# Altium schematic symbol library Logic.SchLib: 88 symbols
Pins are listed as number, name and electrical type; pins without a type are passive.

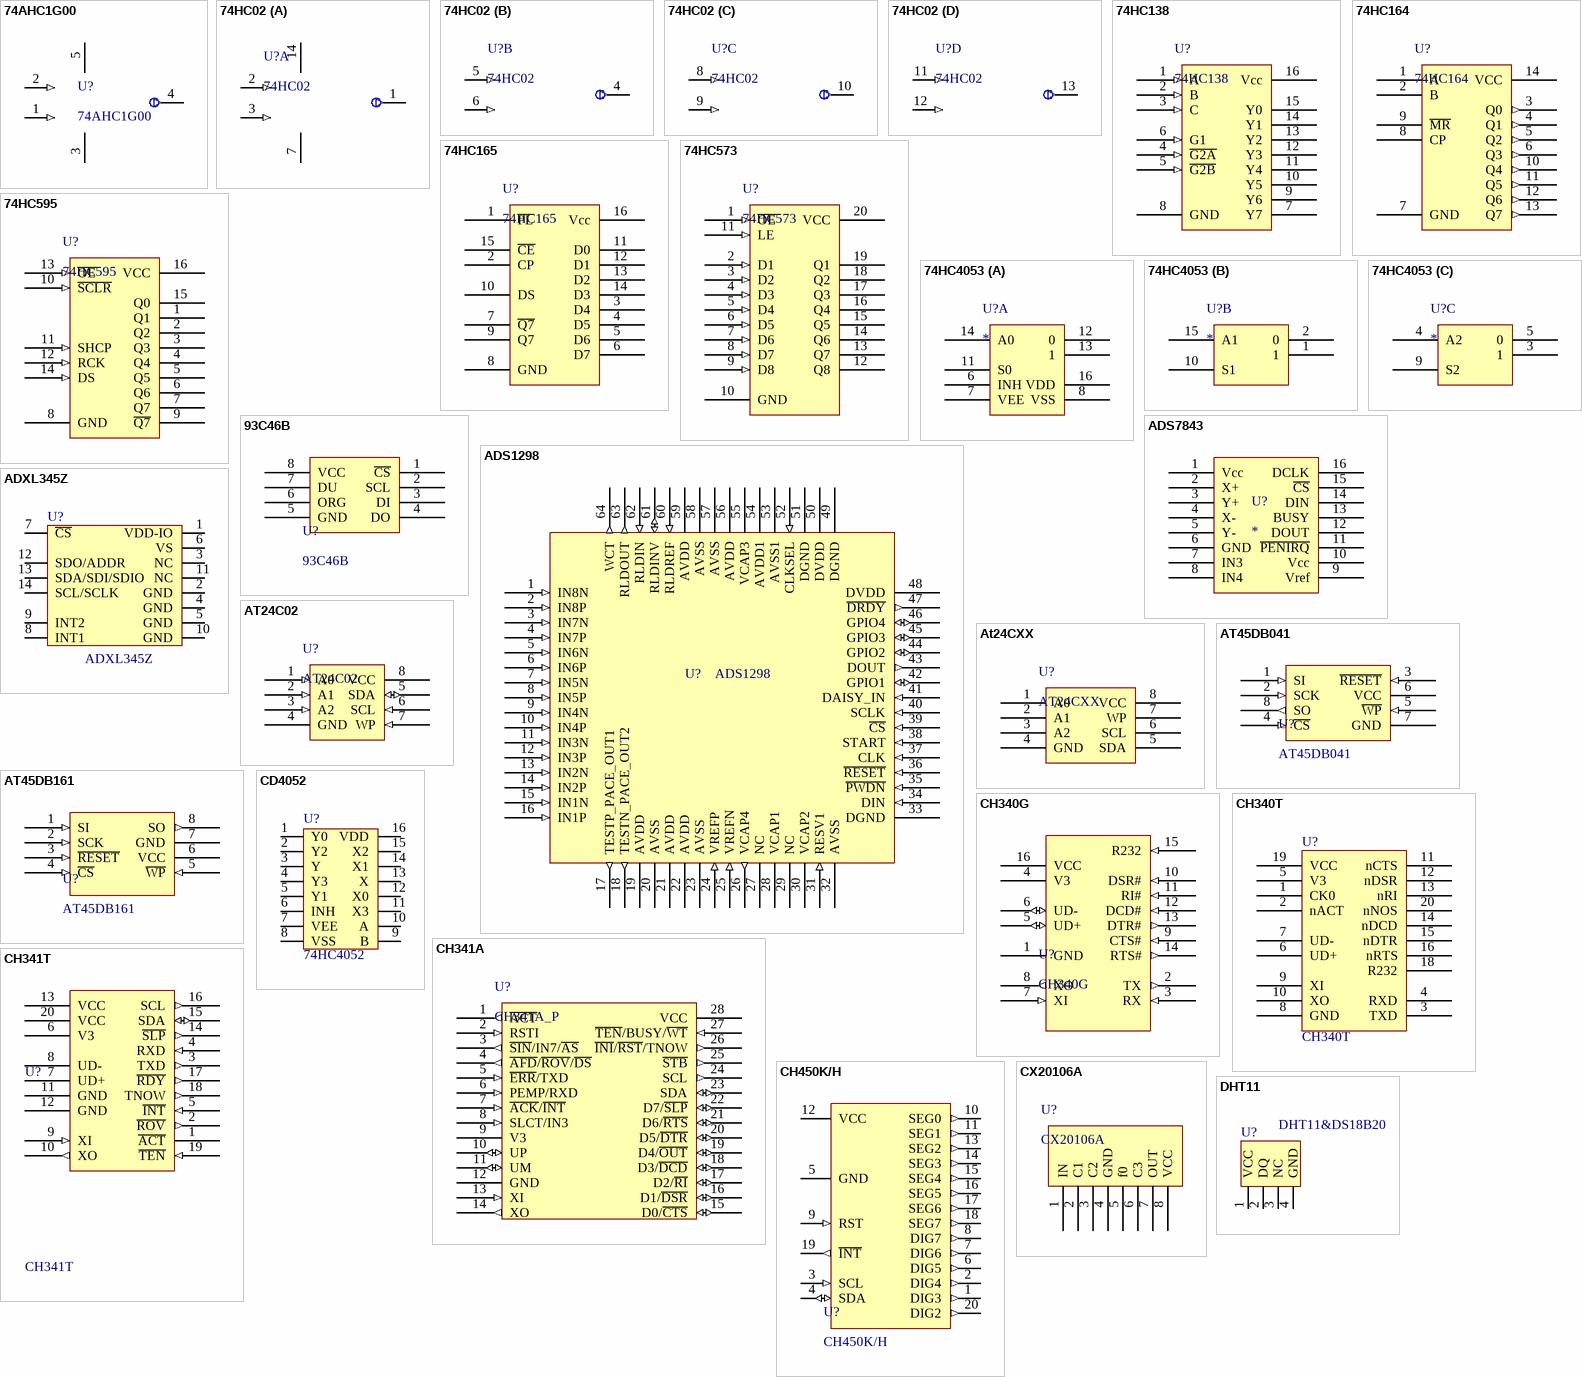
[diagram p0: symbols 74AHC1G00 to DHT11]

## 74AHC1G00
designator U?
SINGLE 2-INPUT POSITIVE-NAND GATE
footprint SOT23-5
pins: 1 (in), 2 (in), 3 (power), 4 (out), 5 (power)

## 74HC02
designator U?
Quad 2-input NOR gate
footprint SOP14
part A pins: 1 (out), 2 (in), 3 (in), 7 (power), 14 (power)
part B pins: 4 (out), 5 (in), 6 (in)
part C pins: 8 (in), 9 (in), 10 (out)
part D pins: 11 (in), 12 (in), 13 (out)

## 74HC138
designator U?
3-to-8 Line Decoder
footprint SOP16
pins: 1 A (in), 2 B (in), 3 C (in), 4 ~{G2A} (in), 5 ~{G2B} (in), 6 G1 (in), 7 Y7 (oc), 8 GND (power), 9 Y6 (oc), 10 Y5 (oc), 11 Y4 (oc), 12 Y3 (oc), 13 Y2 (oc), 14 Y1 (oc), 15 Y0 (oc), 16 Vcc (power)

## 74HC164
designator U?
8-Bit Serial-In, Parallel-Out Shift Register
footprint SOP14
pins: 1 A, 2 B, 3 Q0 (out), 4 Q1 (out), 5 Q2 (out), 6 Q3 (out), 7 GND (power), 8 CP, 9 ~{MR}, 10 Q4 (out), 11 Q5 (out), 12 Q6 (out), 13 Q7 (out), 14 VCC (power)

## 74HC165
designator U?
8-bit parallel-in/serial out shift register
footprint SOP16
pins: 1 ~{PL}, 2 CP, 3 D4 (oc), 4 D5 (oc), 5 D6 (oc), 6 D7 (oc), 7 ~{Q7}, 8 GND (power), 9 Q7, 10 DS, 11 D0 (oc), 12 D1 (oc), 13 D2 (oc), 14 D3 (oc), 15 ~{CE}, 16 Vcc (power)

## 74HC573
designator U?
OCTAL D-TYPE LATCH  WITH 3 STATE OUTPUT NON INVERTING
footprint SOT20
pins: 1 ~{OE} (in), 2 D1 (in), 3 D2 (in), 4 D3 (in), 5 D4 (in), 6 D5 (in), 7 D6 (in), 8 D7 (in), 9 D8 (in), 10 GND (power), 11 LE (in), 12 Q8 (oc), 13 Q7 (oc), 14 Q6 (oc), 15 Q5 (oc), 16 Q4 (oc), 17 Q3 (oc), 18 Q2 (oc), 19 Q1 (oc), 20 VCC (power)

## 74HC595
designator U?
8-bit serial-in, serial or parallel-out shift register with output  latches; 3-state
footprint SOP16
pins: 1 Q1 (oc), 2 Q2 (oc), 3 Q3 (oc), 4 Q4 (oc), 5 Q5 (oc), 6 Q6 (oc), 7 Q7 (oc), 8 GND (power), 9 ~{Q7} (oc), 10 ~{SCLR} (in), 11 SHCP (in), 12 RCK (in), 13 ~{OE} (in), 14 DS (in), 15 Q0 (oc), 16 VCC (power)

## 74HC4053
designator U?
Analog Multi Switcher
footprint SO16_M (16-Pin Small Outline Integrated Circuit 1.27 mm Pitch, IPC Low Density)
part A pins: 6 INH, 7 VEE, 8 VSS, 11 S0, 12 0, 13 1, 14 A0, 16 VDD
part B pins: 1, 2 0, 10 S1, 15 A1
part C pins: 3 1, 4 A2, 5 0, 9 S2

## 93C46B
designator U?
1K Microwire Compatible Serial EEPROM
footprint SO8_L (8-Pin Small Outline Integrated Circuit 1.27 mm Pitch, IPC High Density)
pins: 1 ~{CS}, 2 SCL, 3 DI, 4 DO, 5 GND, 6 ORG, 7 DU, 8 VCC

## ADS1298
designator U?
Low-Power, 8-Channel, 24-Bit Analog Front-End for Biopotential Measurements
footprint LQFP-64_L (Thin QFP, 64-Leads, Body 10x10mm, Pitch 0.5mm, IPC High Density)
pins: 1 IN8N (in), 2 IN8P (in), 3 IN7N (in), 4 IN7P (in), 5 IN6N (in), 6 IN6P (in), 7 IN5N (in), 8 IN5P (in), 9 IN4N (in), 10 IN4P (in), 11 IN3N (in), 12 IN3P (in), 13 IN2N (in), 14 IN2P (in), 15 IN1N (in), 16 IN1P (in), 17 TESTP_PACE_OUT1 (out), 18 TESTN_PACE_OUT2 (out), 19 AVDD (power), 20 AVSS (power), 21 AVDD (power), 22 AVDD (power), 23 AVSS (power), 24 VREFP (in), 25 VREFN (in), 26 VCAP4 (out), 27 NC, 28 VCAP1, 29 NC, 30 VCAP2, 31 RESV1 (in), 32 AVSS (power), 33 DGND (power), 34 DIN (in), 35 ~{PWDN} (in), 36 ~{RESET} (in), 37 CLK (in), 38 START (in), 39 ~{CS} (in), 40 SCLK (in), 41 DAISY_IN (in), 42 GPIO1 (io), 43 DOUT (out), 44 GPIO2 (io), 45 GPIO3 (io), 46 GPIO4 (io), 47 ~{DRDY} (out), 48 DVDD (power), 49 DGND (power), 50 DVDD (power), 51 DGND (power), 52 CLKSEL (in), 53 AVSS1 (power), 54 AVDD1 (power), 55 VCAP3, 56 AVDD (power), 57 AVSS (power), 58 AVSS (power), 59 AVDD (power), 60 RLDREF (in), 61 RLDINV (io), 62 RLDIN (in), 63 RLDOUT (out), 64 WCT (out)

## ADS7843
designator U?
TI touch screen controller
pins: 1 Vcc, 2 X+, 3 Y+, 4 X-, 5 Y-, 6 GND, 7 IN3, 8 IN4, 9 Vref, 10 Vcc, 11 ~{PENIRQ}, 12 DOUT, 13 BUSY, 14 DIN, 15 ~{CS}, 16 DCLK

## ADXL345Z
designator U?
footprint LGA14 (QFN, 14-Leads, Body 5.3x3.3mm (max), Pitch 0.10mm, Pitch1 0.80mm, IPC Medium Density)
pins: 1 VDD-IO, 2 GND, 3 NC, 4 GND, 5 GND, 6 VS, 7 ~{CS}, 8 INT1, 9 INT2, 10 GND, 11 NC, 12 SDO/ADDR, 13 SDA/SDI/SDIO, 14 SCL/SCLK

## AT24C02
designator U?
Two-wire  Serial EEPROM
footprint SO8W_L (8-Pin Small Outline Package 1.27 mm Pitch, IPC High Density)
pins: 1 A0 (in), 2 A1 (in), 3 A2 (in), 4 GND (power), 5 SDA (io), 6 SCL (in), 7 WP (in), 8 VCC (power)

## At24CXX
designator U?, comment AT24CXX
IIC EEPROM
pins: 1 A0, 2 A1, 3 A2, 4 GND, 5 SDA, 6 SCL, 7 WP, 8 VCC

## AT45DB041
designator U?
4M Serial Flash
pins: 1 SI (in), 2 SCK (in), 3 ~{RESET} (in), 4 ~{CS} (in), 5 ~{WP} (in), 6 VCC (power), 7 GND (power), 8 SO (out)

## AT45DB161
designator U?
16M Serial Flash
pins: 1 SI (in), 2 SCK (in), 3 ~{RESET} (in), 4 ~{CS} (in), 5 ~{WP} (in), 6 VCC (power), 7 GND (power), 8 SO (out)

## CD4052
designator U?, comment 74HC4052
footprint SOP16M (Small Outline; 16 Leads; Body Width 3.9 mm; Pitch 1.27 mm)
pins: 1 Y0, 2 Y2, 3 Y, 4 Y3, 5 Y1, 6 INH, 7 VEE, 8 VSS, 9 B, 10 A, 11 X3, 12 X0, 13 X, 14 X1, 15 X2, 16 VDD

## CH340G
designator U?
USB to UART IC
footprint SO16_M (16-Pin Small Outline Integrated Circuit 1.27 mm Pitch, IPC Low Density)
pins: 1 GND (power), 2 TX (out), 3 RX (in), 4 V3 (power), 5 UD+ (io), 6 UD- (io), 7 XI (in), 8 XO (out), 9 CTS# (in), 10 DSR# (in), 11 RI# (in), 12 DCD# (in), 13 DTR# (out), 14 RTS# (out), 15 R232 (in), 16 VCC (power)

## CH340T
designator U?
footprint SSOP20-CH340T (SSOP, Plastic; 20 Leads; Body Width 5.3 mm; Pitch 0.65 mm)
pins: 1 CK0 (power), 2 nACT (power), 3 TXD, 4 RXD, 5 V3, 6 UD+, 7 UD-, 8 GND, 9 XI, 10 XO, 11 nCTS (power), 12 nDSR (power), 13 nRI (power), 14 nDCD (power), 15 nDTR (power), 16 nRTS (power), 18 R232 (power), 19 VCC, 20 nNOS

## CH341A
designator U?, comment CH341A_P
USB bus convert chip
footprint SOT28
pins: 1 ~{ACT} (out), 2 RSTI (in), 3 ~{SIN}/IN7/~{AS} (out), 4 ~{AFD}/~{ROV}/~{DS} (out), 5 ~{ERR}/TXD (in), 6 PEMP/RXD (in), 7 ~{ACK}/~{INT} (in), 8 SLCT/IN3 (in), 9 V3 (power), 10 UP (io), 11 UM (io), 12 GND (power), 13 XI (in), 14 XO (out), 15 D0/~{CTS} (io), 16 D1/~{DSR} (io), 17 D2/~{RI} (io), 18 D3/~{DCD} (io), 19 D4/~{OUT} (io), 20 D5/~{DTR} (io), 21 D6/~{RTS} (io), 22 D7/~{SLP} (io), 23 SDA (io), 24 SCL (out), 25 ~{STB} (out), 26 ~{INI}/~{RST}/TNOW (out), 27 ~{TEN}/BUSY/~{WT} (in), 28 VCC (power)

## CH341T
designator U?
footprint SSOP20 (SSOP, Plastic; 20 Leads; Body Width 5.3 mm; Pitch 0.65 mm)
pins: 1 ~{ACT} (power), 2 ~{ROV} (out), 3 TXD (out), 4 RXD (in), 5 ~{INT} (in), 6 V3 (power), 7 UD+, 8 UD-, 9 XI (in), 10 XO (out), 11 GND (power), 12 GND (power), 13 VCC, 14 ~{SLP} (out), 15 SDA (io), 16 SCL (out), 17 ~{RDY} (out), 18 TNOW (out), 19 ~{TEN} (in), 20 VCC

## CH450K/H
designator U?
7 Segment LED& Key Contoller IC
footprint SO20_L (20-Pin Plastic Small Outline Integrated Circuit 1.27 mm Pitch, IPC High Density)
pins: 1 DIG3 (out), 2 DIG4 (out), 3 SCL (in), 4 SDA (io), 5 GND (power), 6 DIG5 (out), 7 DIG6 (out), 8 DIG7 (out), 9 RST (in), 10 SEG0 (out), 11 SEG1 (out), 12 VCC (power), 13 SEG2 (out), 14 SEG3 (out), 15 SEG4 (out), 16 SEG5 (out), 17 SEG6 (out), 18 SEG7 (out), 19 ~{INT} (out), 20 DIG2 (out)

## CX20106A
designator U?
Infrared Remote Control Receiver
footprint HDR1X8
pins: 1 IN, 2 C1, 3 C2, 4 GND, 5 f0, 6 C3, 7 OUT, 8 VCC

## DHT11
designator U?, comment DHT11&DS18B20
Digital Humidity Sensor
footprint DHT11 (2.54mm)
pins: 1 VCC, 2 DQ, 3 NC, 4 GND

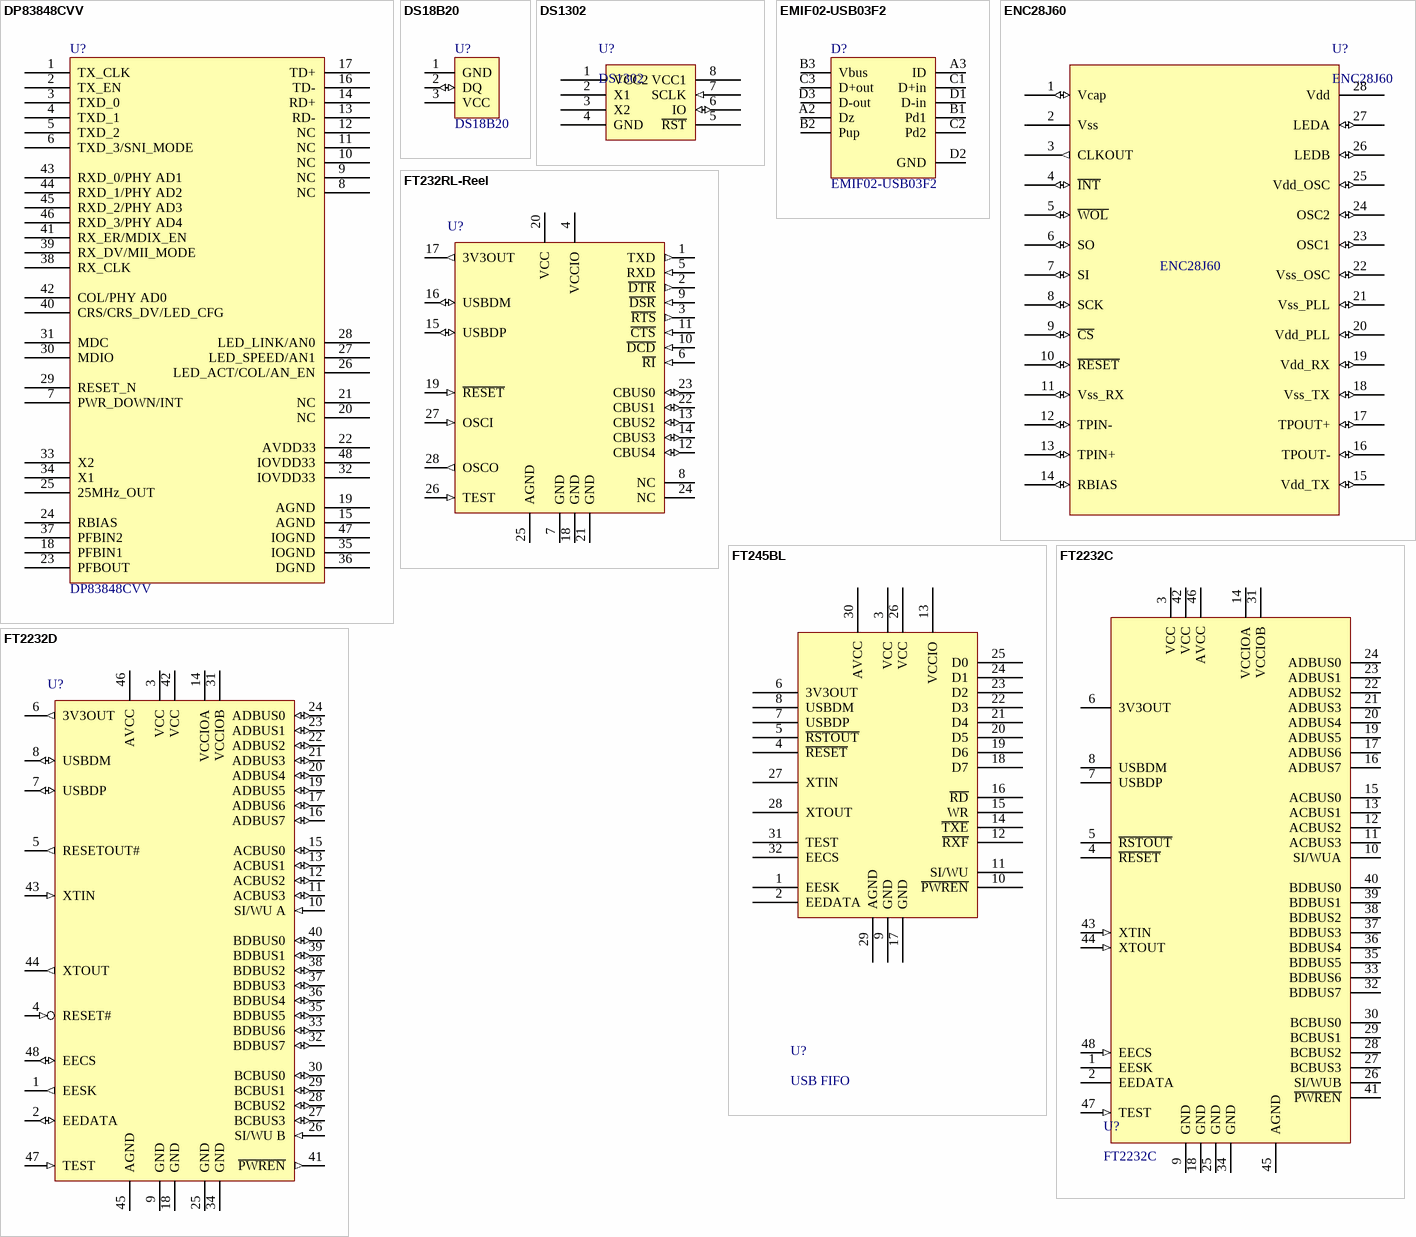
[diagram p1: symbols DP83848CVV to FT2232D]

## DP83848CVV
designator U?
footprint LQFP48_N (Thin QFP, 48-Leads, Body 7x7mm, Pitch 0.5mm, IPC Medium Density)
pins: 1 TX_CLK, 2 TX_EN, 3 TXD_0, 4 TXD_1, 5 TXD_2, 6 TXD_3/SNI_MODE, 7 PWR_DOWN/INT, 8 NC, 9 NC, 10 NC, 11 NC, 12 NC, 13 RD-, 14 RD+, 15 AGND, 16 TD-, 17 TD+, 18 PFBIN1, 19 AGND, 20 NC, 21 NC, 22 AVDD33, 23 PFBOUT, 24 RBIAS, 25 25MHz_OUT, 26 LED_ACT/COL/AN_EN, 27 LED_SPEED/AN1, 28 LED_LINK/AN0, 29 RESET_N, 30 MDIO, 31 MDC, 32 IOVDD33, 33 X2, 34 X1, 35 IOGND, 36 DGND, 37 PFBIN2, 38 RX_CLK, 39 RX_DV/MII_MODE, 40 CRS/CRS_DV/LED_CFG, 41 RX_ER/MDIX_EN, 42 COL/PHY AD0, 43 RXD_0/PHY AD1, 44 RXD_1/PHY AD2, 45 RXD_2/PHY AD3, 46 RXD_3/PHY AD4, 47 IOGND, 48 IOVDD33

## DS18B20
designator U?
Programmable Resolution  1-Wire Digital Thermometer; LatestRevisionDate: 17-Jul-2002; LatestRevisionNote: Re-released for DXP Platform.; Publisher: Altium Limited
footprint TO-92A (TO, Flat Index; 3 In-Line, Axial Leads; Body Dia. 4.5mm; Leads 0.51 x 0.48 mm (max))
footprint TO-220AB (TO, Thru-Hole, Vertical, Heatsink Mounted; 3 In-Line Leads; Pitch 2.54 mm)
pins: 1 GND (power), 2 DQ (io), 3 VCC (power)

## DS1302
designator U?
Trickle Charge Timekeeping Chip
footprint SOP8
pins: 1 VCC2 (power), 2 X1, 3 X2, 4 GND (power), 5 ~{RST}, 6 IO (io), 7 SCLK (in), 8 VCC1

## EMIF02-USB03F2
designator D?
footprint Flip Chip (Footprint not found)
footprint FlipChip(11)
footprint BGA11_0R5_1R57X2R07 (Footprint not found)
pins: A2 Dz, A3 ID, B1 Pd1, B2 Pup, B3 Vbus, C1 D+in, C2 Pd2, C3 D+out, D1 D-in, D2 GND, D3 D-out

## ENC28J60
designator U?
Microchip Physical Layer chip
pins: 1 Vcap (io), 2 Vss (power), 3 CLKOUT (out), 4 ~{INT} (io), 5 ~{WOL} (io), 6 SO (io), 7 SI (io), 8 SCK (io), 9 ~{CS} (io), 10 ~{RESET} (io), 11 Vss_RX (io), 12 TPIN- (io), 13 TPIN+ (io), 14 RBIAS (io), 15 Vdd_TX (io), 16 TPOUT- (io), 17 TPOUT+ (io), 18 Vss_TX (io), 19 Vdd_RX (io), 20 Vdd_PLL (io), 21 Vss_PLL (io), 22 Vss_OSC (io), 23 OSC1 (io), 24 OSC2 (io), 25 Vdd_OSC (io), 26 LEDB (io), 27 LEDA (io), 28 Vdd (power)

## FT232RL-Reel
designator U?
USB UART Asynchronous Serial Data Transfer Chip, SSOP-28, Tape and Reel; Published: 19-Aug-2010; DatasheetVersion: ver 2.07, Jul-2010; PackageVersion: 2010; PackageReference: SSOP-28; Publisher: Altium Limited; PackageDescription: 28-Pin Small Outline Package 0.65 mm Pitch; ComponentLink1Description: Manufacturer Link; ComponentLink1URL: http://www.ftdichip.com/Products/ICs/FT232R.htm; ComponentLink2Description: Datasheet; ComponentLink2URL: http://www.ftdichip.com/Support/Documents/DataSheets/ICs/DS_FT232R.pdf
footprint SSOP-28_N (SOP, 28-Leads, Body 10.2x5.3mm, Pitch 0.65mm, IPC Medium Density)
footprint SSOP-28_L (SOP, 28-Leads, Body 10.2x5.3mm, Pitch 0.65mm, IPC High Density)
footprint SSOP-28_M (SOP, 28-Leads, Body 10.2x5.3mm, Pitch 0.65mm, IPC Low Density)
pins: 1 TXD (out), 2 ~{DTR} (out), 3 ~{RTS} (out), 4 VCCIO (power), 5 RXD (in), 6 ~{RI} (in), 7 GND (power), 8 NC, 9 ~{DSR} (in), 10 ~{DCD} (in), 11 ~{CTS} (in), 12 CBUS4 (io), 13 CBUS2 (io), 14 CBUS3 (io), 15 USBDP (io), 16 USBDM (io), 17 3V3OUT (out), 18 GND (power), 19 ~{RESET} (in), 20 VCC (power), 21 GND (power), 22 CBUS1 (io), 23 CBUS0 (io), 24 NC, 25 AGND (power), 26 TEST (in), 27 OSCI (in), 28 OSCO (out)

## FT245BL
designator U?, comment USB FIFO
FT245BL
footprint LQFP32 (Footprint not found)
pins: 1 EESK, 2 EEDATA, 3 VCC, 4 ~{RESET}, 5 ~{RSTOUT}, 6 3V3OUT, 7 USBDP, 8 USBDM, 9 GND, 10 ~{PWREN}, 11 SI/WU, 12 ~{RXF}, 13 VCCIO, 14 ~{TXE}, 15 WR, 16 ~{RD}, 17 GND, 18 D7, 19 D6, 20 D5, 21 D4, 22 D3, 23 D2, 24 D1, 25 D0, 26 VCC, 27 XTIN, 28 XTOUT, 29 AGND, 30 AVCC, 31 TEST, 32 EECS

## FT2232C
designator U?
USB UART/FIFO
pins: 1 EESK, 2 EEDATA, 3 VCC, 4 ~{RESET}, 5 ~{RSTOUT}, 6 3V3OUT (power), 7 USBDP, 8 USBDM, 9 GND (power), 10 SI/WUA, 11 ACBUS3, 12 ACBUS2, 13 ACBUS1, 14 VCCIOA, 15 ACBUS0, 16 ADBUS7, 17 ADBUS6, 18 GND (power), 19 ADBUS5, 20 ADBUS4, 21 ADBUS3, 22 ADBUS2, 23 ADBUS1, 24 ADBUS0, 25 GND (power), 26 SI/WUB, 27 BCBUS3, 28 BCBUS2, 29 BCBUS1, 30 BCBUS0, 31 VCCIOB, 32 BDBUS7, 33 BDBUS6, 34 GND (power), 35 BDBUS5, 36 BDBUS4, 37 BDBUS3, 38 BDBUS2, 39 BDBUS1, 40 BDBUS0, 41 ~{PW}~{REN}, 42 VCC, 43 XTIN (in), 44 XTOUT (in), 45 AGND (power), 46 AVCC, 47 TEST (in), 48 EECS (in)

## FT2232D
designator U?
Dual USB UART/FIFO Chip, LQFP-48; Published: 19-Aug-2010; DatasheetVersion: ver 2.03, May-2010; PackageVersion: 2005; PackageReference: LQFP-48; Publisher: Altium Limited; PackageDescription: 48-Pin Thin Quad Flat Pack 0.5 mm Pitch; ComponentLink1Description: Manufacturer Link; ComponentLink1URL: http://www.ftdichip.com/Products/ICs/FT2232D.htm; ComponentLink2Description: Datasheet; ComponentLink2URL: http://www.ftdichip.com/Support/Documents/DataSheets/ICs/DS_FT2232D.pdf
footprint LQFP-48_N (Thin QFP, 48-Leads, Body 7x7mm, Pitch 0.5mm, IPC Medium Density)
footprint LQFP-48_L (Thin QFP, 48-Leads, Body 7x7mm, Pitch 0.5mm, IPC High Density)
footprint LQFP-48_M (Thin QFP, 48-Leads, Body 7x7mm, Pitch 0.5mm, IPC Low Density)
pins: 1 EESK (out), 2 EEDATA (io), 3 VCC (power), 4 RESET# (in), 5 RESETOUT# (out), 6 3V3OUT (out), 7 USBDP (io), 8 USBDM (io), 9 GND (power), 10 SI/WU A (in), 11 ACBUS3 (io), 12 ACBUS2 (io), 13 ACBUS1 (io), 14 VCCIOA (power), 15 ACBUS0 (io), 16 ADBUS7 (io), 17 ADBUS6 (io), 18 GND (power), 19 ADBUS5 (io), 20 ADBUS4 (io), 21 ADBUS3 (io), 22 ADBUS2 (io), 23 ADBUS1 (io), 24 ADBUS0 (io), 25 GND (power), 26 SI/WU B (in), 27 BCBUS3 (io), 28 BCBUS2 (io), 29 BCBUS1 (io), 30 BCBUS0 (io), 31 VCCIOB (power), 32 BDBUS7 (io), 33 BDBUS6 (io), 34 GND (power), 35 BDBUS5 (io), 36 BDBUS4 (io), 37 BDBUS3 (io), 38 BDBUS2 (io), 39 BDBUS1 (io), 40 BDBUS0 (io), 41 ~{PWREN} (out), 42 VCC (power), 43 XTIN (in), 44 XTOUT (out), 45 AGND (power), 46 AVCC (power), 47 TEST (in), 48 EECS (io)

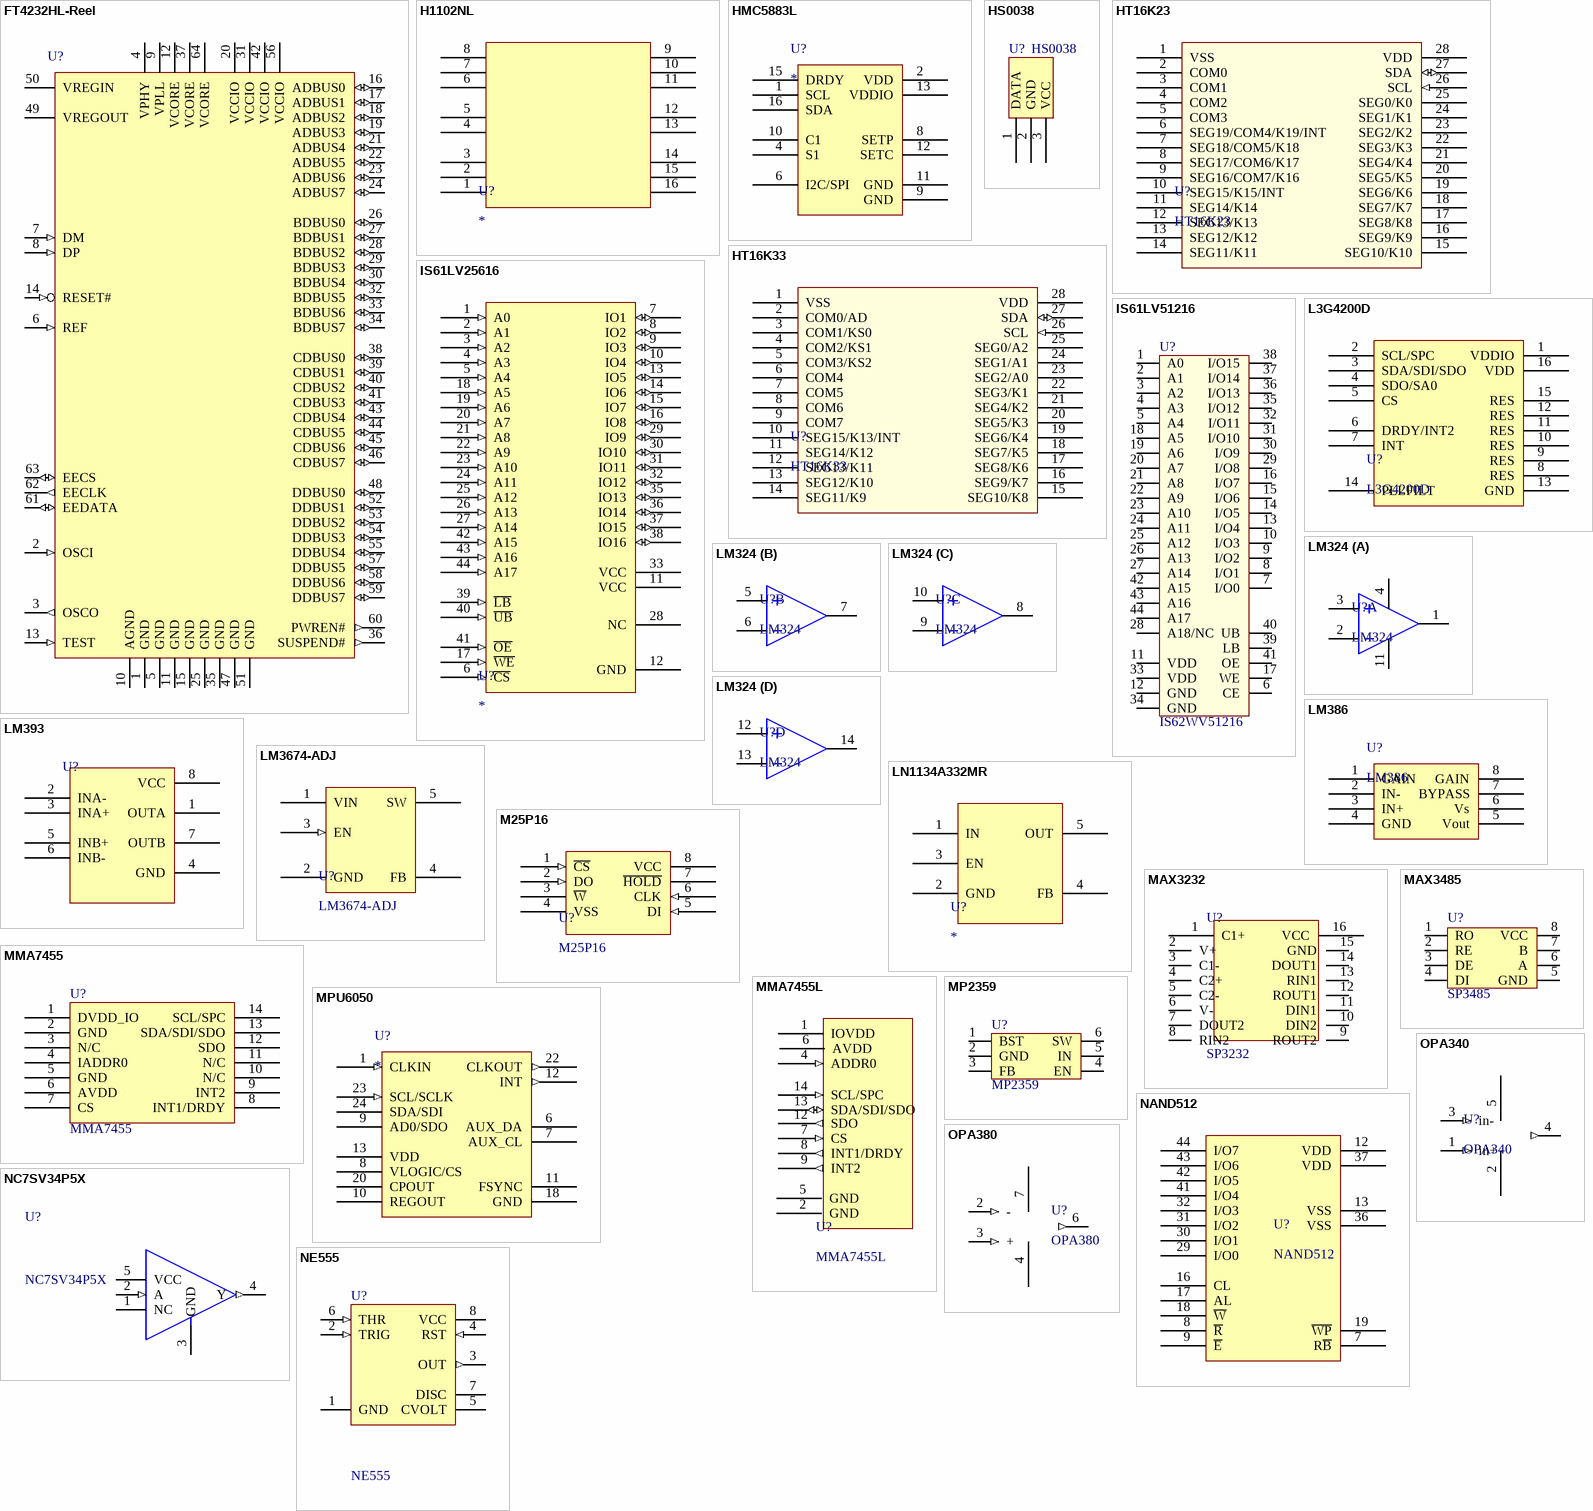
[diagram p2: symbols FT4232HL-Reel to OPA380]

## FT4232HL-Reel
designator U?
Quad High Speed USB To Multipurpose UART/MPSSE IC, LQFP-64, Tape and Reel; Published: 19-Aug-2010; DatasheetVersion: ver 2.08, May-2010; PackageVersion: 2010; PackageReference: LQFP-64; Publisher: Altium Limited; PackageDescription: 64-Pin Thin Quad Flat Pack, 10 x 10 x 1.4 mm Body, 0.5 mm Pitch; ComponentLink1Description: Manufacturer Link; ComponentLink1URL: http://www.ftdichip.com/Products/ICs/FT4232H.htm; ComponentLink2Description: Datasheet; ComponentLink2URL: http://www.ftdichip.com/Support/Documents/DataSheets/ICs/DS_FT4232H.pdf
footprint LQFP-64_N (Thin QFP, 64-Leads, Body 10x10mm, Pitch 0.5mm, IPC Medium Density)
footprint LQFP-64_L (Thin QFP, 64-Leads, Body 10x10mm, Pitch 0.5mm, IPC High Density)
footprint LQFP-64_M (Thin QFP, 64-Leads, Body 10x10mm, Pitch 0.5mm, IPC Low Density)
pins: 1 GND (power), 2 OSCI (in), 3 OSCO (out), 4 VPHY (power), 5 GND (power), 6 REF (in), 7 DM (in), 8 DP (in), 9 VPLL (power), 10 AGND (power), 11 GND (power), 12 VCORE (power), 13 TEST (in), 14 RESET# (in), 15 GND (power), 16 ADBUS0 (io), 17 ADBUS1 (io), 18 ADBUS2 (io), 19 ADBUS3 (io), 20 VCCIO (power), 21 ADBUS4 (io), 22 ADBUS5 (io), 23 ADBUS6 (io), 24 ADBUS7 (io), 25 GND (power), 26 BDBUS0 (io), 27 BDBUS1 (io), 28 BDBUS2 (io), 29 BDBUS3 (io), 30 BDBUS4 (io), 31 VCCIO (power), 32 BDBUS5 (io), 33 BDBUS6 (io), 34 BDBUS7 (io), 35 GND (power), 36 SUSPEND# (out), 37 VCORE (power), 38 CDBUS0 (io), 39 CDBUS1 (io), 40 CDBUS2 (io), 41 CDBUS3 (io), 42 VCCIO (power), 43 CDBUS4 (io), 44 CDBUS5 (io), 45 CDBUS6 (io), 46 CDBUS7 (io), 47 GND (power), 48 DDBUS0 (io), 49 VREGOUT (power), 50 VREGIN (power), 51 GND (power), 52 DDBUS1 (io), 53 DDBUS2 (io), 54 DDBUS3 (io), 55 DDBUS4 (io), 56 VCCIO (power), 57 DDBUS5 (io), 58 DDBUS6 (io), 59 DDBUS7 (io), 60 PWREN# (out), 61 EEDATA (io), 62 EECLK (out), 63 EECS (io), 64 VCORE (power)

## H1102NL
designator U?
pins: 1 NC, 2 NC, 3 NC, 4 NC, 5 NC, 6 NC, 7 NC, 8 NC, 9 NC, 10 NC, 11 NC, 12 NC, 13 NC, 14 NC, 15 NC, 16 NC

## HMC5883L
designator U?
Digital Compass IC
footprint QFN16(3X3)
footprint LPCC16
pins: 1 SCL, 2 VDD (power), 4 S1, 6 I2C/SPI, 8 SETP, 9 GND (power), 10 C1, 11 GND (power), 12 SETC, 13 VDDIO (power), 15 DRDY, 16 SDA

## HS0038
designator U?
IR Decoder
footprint HS0038
pins: 1 DATA, 2 GND, 3 VCC

## HT16K23
designator U?
LCD Driver with keyscan
footprint SO28_M (28-Pin Plastic Small Outline Integrated Circuit 1.27 mm Pitch, IPC Low Density)
pins: 1 VSS (power), 2 COM0, 3 COM1, 4 COM2, 5 COM3, 6 SEG19/COM4/K19/INT, 7 SEG18/COM5/K18, 8 SEG17/COM6/K17, 9 SEG16/COM7/K16, 10 SEG15/K15/INT, 11 SEG14/K14, 12 SEG13/K13, 13 SEG12/K12, 14 SEG11/K11, 15 SEG10/K10, 16 SEG9/K9, 17 SEG8/K8, 18 SEG7/K7, 19 SEG6/K6, 20 SEG5/K5, 21 SEG4/K4, 22 SEG3/K3, 23 SEG2/K2, 24 SEG1/K1, 25 SEG0/K0, 26 SCL (in), 27 SDA (io), 28 VDD (power)

## HT16K33
designator U?
LCD Driver with keyscan
footprint SO28_M (28-Pin Plastic Small Outline Integrated Circuit 1.27 mm Pitch, IPC Low Density)
pins: 1 VSS (power), 2 COM0/AD, 3 COM1/KS0, 4 COM2/KS1, 5 COM3/KS2, 6 COM4, 7 COM5, 8 COM6, 9 COM7, 10 SEG15/K13/INT, 11 SEG14/K12, 12 SEG13/K11, 13 SEG12/K10, 14 SEG11/K9, 15 SEG10/K8, 16 SEG9/K7, 17 SEG8/K6, 18 SEG7/K5, 19 SEG6/K4, 20 SEG5/K3, 21 SEG4/K2, 22 SEG3/K1, 23 SEG2/A0, 24 SEG1/A1, 25 SEG0/A2, 26 SCL (in), 27 SDA (io), 28 VDD (power)

## IS61LV25616
designator U?
256K*16 SRAM
pins: 1 A0 (in) "Address 0", 2 A1 (in) "Address 1", 3 A2 (in) "Address 3", 4 A3 (in) "Address 3", 5 A4 (in) "Address 4", 6 ~{CS} (in) "Chip Select", 7 IO1 (io) "Data 1", 8 IO2 (io) "Data 2", 9 IO3 (io) "Data 3", 10 IO4 (io) "Data 4", 11 VCC (power) "Pos Supply", 12 GND (power), 13 IO5 (io) "Data 5", 14 IO6 (io) "Data 6", 15 IO7 (io) "Data 7", 16 IO8 (io), 17 ~{WE} (in) "Write Enable", 18 A5 (in) "Address 5", 19 A6 (in), 20 A7 (in), 21 A8 (in), 22 A9 (in), 23 A10 (in), 24 A11 (in), 25 A12 (in), 26 A13 (in), 27 A14 (in), 28 NC, 29 IO9 (io), 30 IO10 (io), 31 IO11 (io), 32 IO12 (io), 33 VCC (power) "Pos Supply", 35 IO13 (io), 36 IO14 (io), 37 IO15 (io), 38 IO16 (io), 39 ~{LB} (in), 40 ~{UB} (in), 41 ~{OE} (in) "Output Enable", 42 A15 (in), 43 A16 (in), 44 A17 (in)

## IS61LV51216
designator U?, comment IS62WV51216
footprint TSOP44
pins: 1 A0, 2 A1, 3 A2, 4 A3, 5 A4, 6 CE, 7 I/O0, 8 I/O1, 9 I/O2, 10 I/O3, 11 VDD, 12 GND, 13 I/O4, 14 I/O5, 15 I/O6, 16 I/O7, 17 WE, 18 A5, 19 A6, 20 A7, 21 A8, 22 A9, 23 A10, 24 A11, 25 A12, 26 A13, 27 A14, 28 A18/NC, 29 I/O8, 30 I/O9, 31 I/O10, 32 I/O11, 33 VDD, 34 GND, 35 I/O12, 36 I/O13, 37 I/O14, 38 I/O15, 39 LB, 40 UB, 41 OE, 42 A15, 43 A16, 44 A17

## L3G4200D
designator U?
ultra-stable three-axis digital output gyroscope
footprint LGA16 (Footprint not found)
pins: 1 VDDIO, 2 SCL/SPC, 3 SDA/SDI/SDO, 4 SDO/SA0, 5 CS, 6 DRDY/INT2, 7 INT, 8 RES, 9 RES, 10 RES, 11 RES, 12 RES, 13 GND, 14 PLLFILT, 15 RES, 16 VDD

## LM324
designator U?
Low Power Quad Operational Amplifiers
footprint SOP14
part A pins: 1 OUT, 2 -, 3 +, 4 Vcc, 11 Vss
part B pins: 5 +, 6 -, 7 OUT
part C pins: 8 OUT, 9 -, 10 +
part D pins: 12 +, 13 -, 14 OUT

## LM386
designator U?
Low Voltage Audio Power Amplifier
footprint SOP8
pins: 1 GAIN, 2 IN-, 3 IN+, 4 GND (power), 5 Vout, 6 Vs (power), 7 BYPASS, 8 GAIN

## LM393
designator U?  (value not drawn)
Dual Differential Comparitors
footprint SO8_M (8-Pin Small Outline Integrated Circuit 1.27 mm Pitch, IPC Low Density)
pins: 1 OUTA, 2 INA-, 3 INA+, 4 GND, 5 INB+, 6 INB-, 7 OUTB, 8 VCC

## LM3674-ADJ
designator U?
pins: 1 VIN (power), 2 GND (power), 3 EN (in), 4 FB (power), 5 SW (power)

## LN1134A332MR
designator U?
High Speed    Low Dropout   Middle Current Voltage Regulators
footprint SOT23-5
pins: 1 IN, 2 GND, 3 EN, 4 FB, 5 OUT

## M25P16
designator U?
16M Serial Flash
pins: 1 ~{CS} (in), 2 DO (in), 3 ~{W} (power), 4 VSS (power), 5 DI (in), 6 CLK (in), 7 ~{HOLD} (power), 8 VCC (power)

## MAX3232
designator U?, comment SP3232
footprint SOP16M (Small Outline; 16 Leads; Body Width 3.9 mm; Pitch 1.27 mm)
pins: 1 C1+, 2 V+, 3 C1-, 4 C2+, 5 C2-, 6 V-, 7 DOUT2, 8 RIN2, 9 ROUT2, 10 DIN2, 11 DIN1, 12 ROUT1, 13 RIN1, 14 DOUT1, 15 GND, 16 VCC

## MAX3485
designator U?, comment SP3485
footprint SOP-8 (SOP)
pins: 1 RO, 2 RE, 3 DE, 4 DI, 5 GND, 6 A, 7 B, 8 VCC

## MMA7455
designator U?
Digital acceleration sensor
footprint LGA14
pins: 1 DVDD_IO, 2 GND, 3 N/C, 4 IADDR0, 5 GND, 6 AVDD, 7 CS, 8 INT1/DRDY, 9 INT2, 10 N/C, 11 N/C, 12 SDO, 13 SDA/SDI/SDO, 14 SCL/SPC

## MMA7455L
designator U?
pins: 1 IOVDD (power), 2 GND (power), 4 ADDR0 (in), 5 GND (power), 6 AVDD (power), 7 CS (in), 8 INT1/DRDY (out), 9 INT2 (out), 12 SDO (out), 13 SDA/SDI/SDO (io), 14 SCL/SPC (in)

## MP2359
designator U?
DC DC Step Down IC
footprint SOT-23-6
pins: 1 BST, 2 GND, 3 FB, 4 EN, 5 IN, 6 SW

## MPU6050
designator U?
3-axis Gyroscope, 3-axis accelerometer IC
footprint QFN24(4x4)
pins: 1 CLKIN (in), 6 AUX_DA, 7 AUX_CL, 8 VLOGIC/CS, 9 AD0/SDO, 10 REGOUT, 11 FSYNC, 12 INT (out), 13 VDD (power), 18 GND (power), 20 CPOUT, 22 CLKOUT (out), 23 SCL/SCLK (in), 24 SDA/SDI

## NAND512
designator U?
pins: 7 R~{B}, 8 ~{R}, 9 ~{E}, 12 VDD, 13 VSS, 16 CL, 17 AL, 18 ~{W}, 19 ~{WP}, 29 I/O0, 30 I/O1, 31 I/O2, 32 I/O3, 36 VSS, 37 VDD, 41 I/O4, 42 I/O5, 43 I/O6, 44 I/O7

## NC7SV34P5X
designator U?
Single Buffer/Driver With Open-Drain Output; ComponentAvailability: Obsolete; Published: 8-Jun-2000; LatestRevisionDate: 13-Apr-2006; LatestRevisionNote: IPC-7351 Footprint Added.; DatasheetVersion: May-1986; PackageVersion: Jan-1998; PackageReference: D014; Publisher: Altium Limited; PackageDescription: 14-Pin Small Outline Integrated Circuit 1.27 mm Pitch; Code_IPC: SOIC127P600-14; ComponentLink1Description: Manufacturer Link; ComponentLink1URL: http://www.ti.com/; ComponentLink2Description: Datasheet; ComponentLink2URL: http://www-s.ti.com/sc/ds/sn74als34.pdf; ComponentLink3Description: Discontinuation Notice; ComponentLink3URL: http://focus.ti.com/docs/prod/folders/print/sn74als34.html
footprint SC70 (Footprint not found)
pins: 1 NC, 2 A (in), 3 GND, 4 Y (out), 5 VCC

## NE555
designator U?
highly stable controller capable  of producing accurate time delays, or oscillation; Revision: 17-Jul-2002: Re-released for DXP Platform.; Publisher: Altium Limited
footprint SOP8
pins: 1 GND (power), 2 TRIG (in), 3 OUT (out), 4 RST (in), 5 CVOLT, 6 THR (in), 7 DISC, 8 VCC (power)
2 alternate drawings of the same symbol

## OPA340
designator U?
Precision Amplifier
footprint SOT25
pins: 1 in+ (in), 2 -, 3 in- (in), 4 out (out), 5 +

## OPA380
designator U?
Precision, High-Speed Transimpedance Amplifier
footprint MSOP8
pins: 2 - (in), 3 + (in), 4 -, 6 (out), 7 +

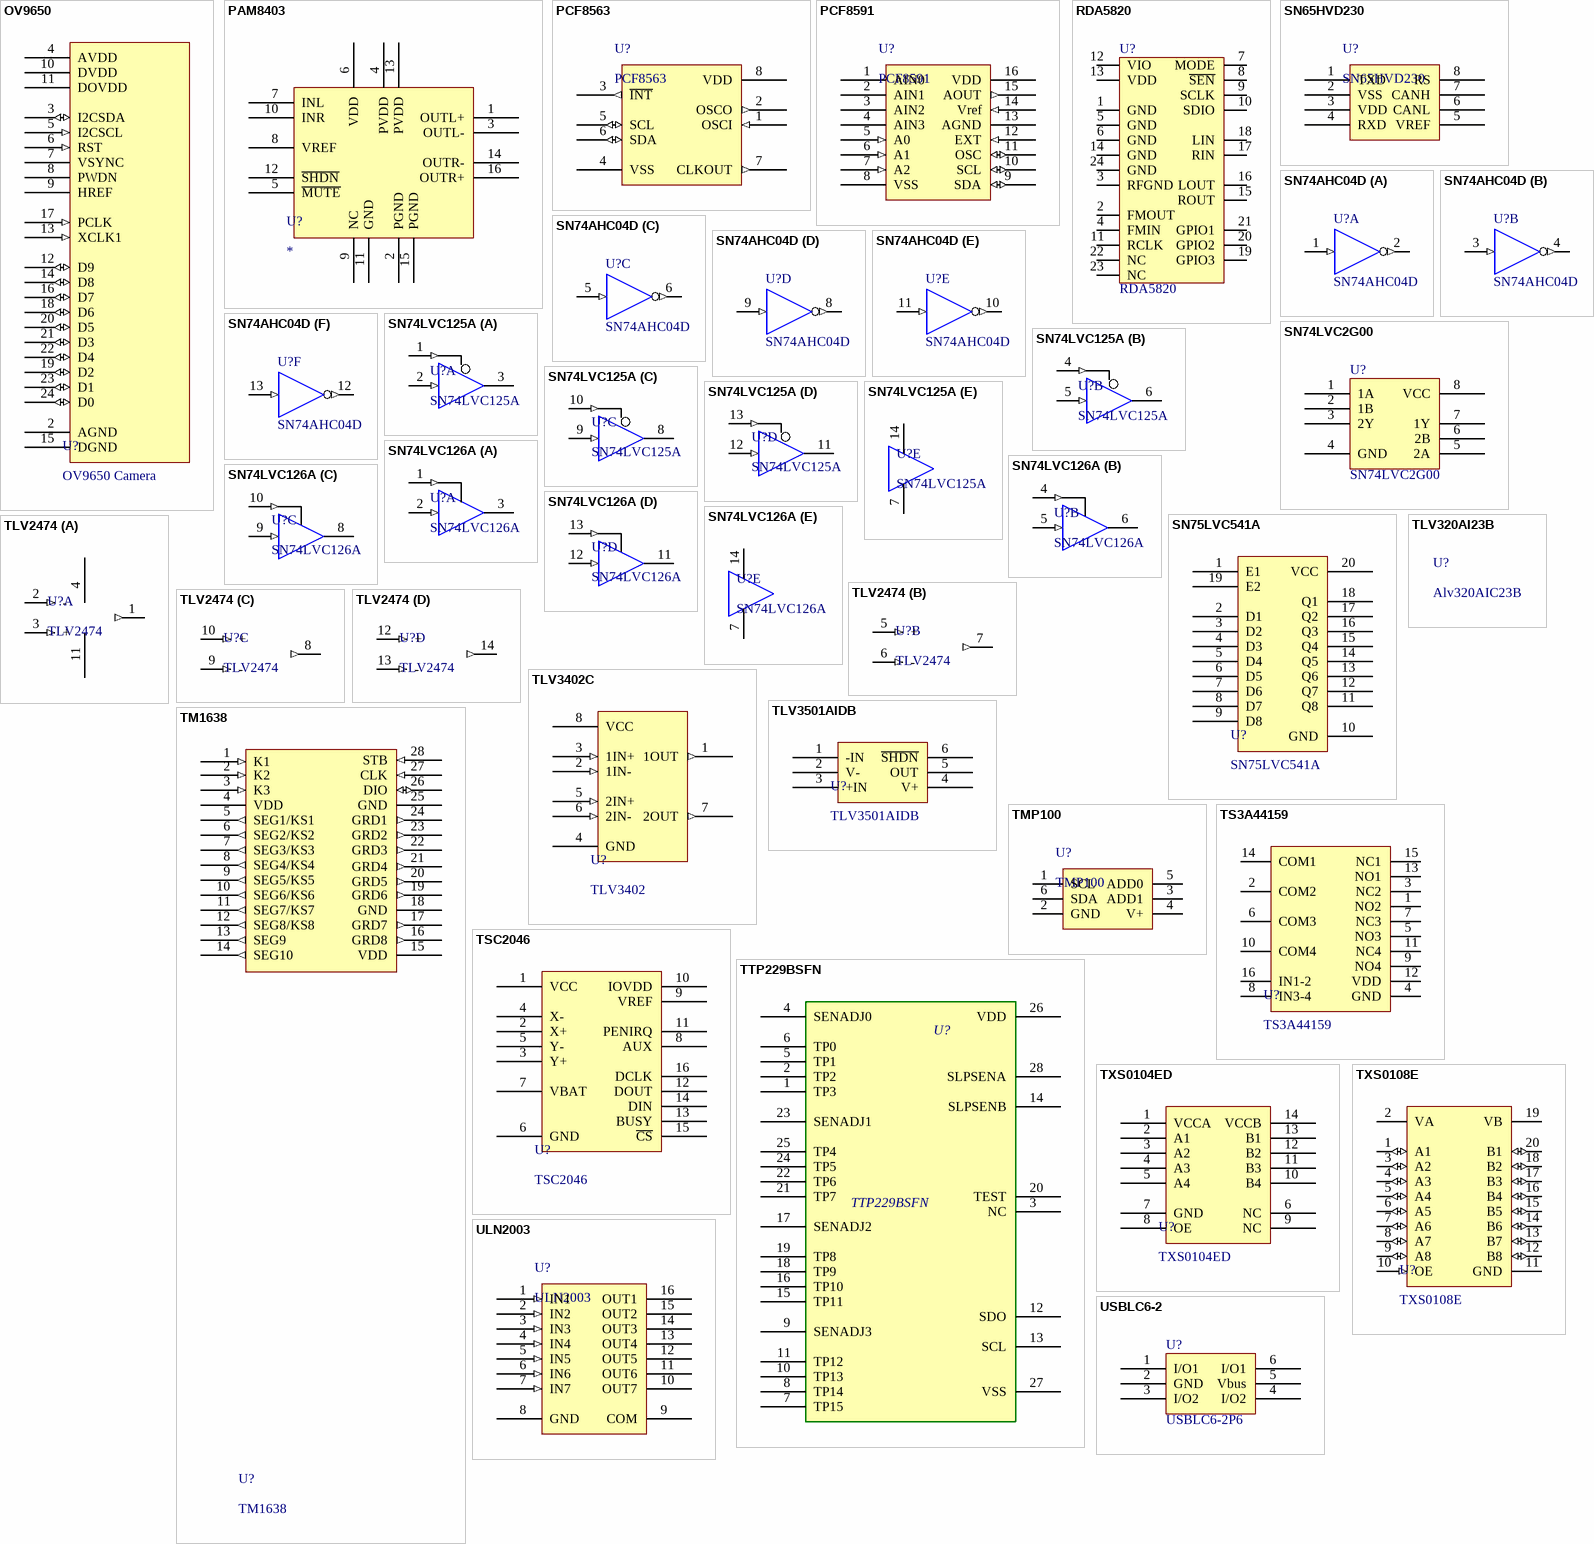
[diagram p3: symbols OV9650 to USBLC6-2]

## OV9650
designator U?, comment OV9650 Camera
pins: 2 AGND (power), 3 I2CSDA (io), 4 AVDD (power), 5 I2CSCL (in), 6 RST (in), 7 VSYNC, 8 PWDN, 9 HREF, 10 DVDD (power), 11 DOVDD (power), 12 D9 (io), 13 XCLK1 (in), 14 D8 (io), 15 DGND (power), 16 D7 (io), 17 PCLK (in), 18 D6 (io), 19 D2 (io), 20 D5 (io), 21 D3 (io), 22 D4 (io), 23 D1 (io), 24 D0 (io)

## PAM8403
designator U?
Audio Power Amplifier
footprint SO16_M (16-Pin Small Outline Integrated Circuit 1.27 mm Pitch, IPC Low Density)
pins: 1 OUTL+, 2 PGND, 3 OUTL-, 4 PVDD, 5 ~{MUTE}, 6 VDD, 7 INL, 8 VREF, 9 NC, 10 INR, 11 GND, 12 ~{SHDN}, 13 PVDD, 14 OUTR-, 15 PGND, 16 OUTR+

## PCF8563
designator U?
Real Time Clock/Calendar
pins: 1 OSCI (in), 2 OSCO (out), 3 ~{INT} (out), 4 VSS (power), 5 SCL (io), 6 SDA (io), 7 CLKOUT (out), 8 VDD (power)

## PCF8591
designator U?
8-bit A/D and D/A converter
footprint SOT162-1
pins: 1 AIN0, 2 AIN1, 3 AIN2, 4 AIN3, 5 A0 (in), 6 A1 (in), 7 A2 (in), 8 VSS (power), 9 SDA (io), 10 SCL (io), 11 OSC (io), 12 EXT (in), 13 AGND (power), 14 Vref (in), 15 AOUT (out), 16 VDD (power)

## RDA5820
designator U?
footprint QFN24 (QFN, 24-Leads, Body 4.0x4.0mm (max), Pitch 0.50mm, IPC Medium Density)
pins: 1 GND, 2 FMOUT, 3 RFGND, 4 FMIN, 5 GND, 6 GND, 7 MODE, 8 ~{SEN}, 9 SCLK, 10 SDIO, 11 RCLK, 12 VIO, 13 VDD, 14 GND, 15 ROUT, 16 LOUT, 17 RIN, 18 LIN, 19 GPIO3, 20 GPIO2, 21 GPIO1, 22 NC, 23 NC, 24 GND

## SN65HVD230
designator U?
CAN BUS TRANSIVER
pins: 1 TXD, 2 VSS, 3 VDD, 4 RXD, 5 VREF, 6 CANL, 7 CANH, 8 RS

## SN74AHC04D
designator U?
Hex Inverter; Published: 8-Jun-2000; LatestRevisionDate: 13-Apr-2006; LatestRevisionNote: IPC-7351 Footprint Added.; DatasheetVersion: Jun-1998; PackageVersion: Jan-1998; PackageReference: D014; Publisher: Altium Limited; PackageDescription: 14-Pin Small Outline Integrated Circuit 1.27 mm Pitch; Code_IPC: SOIC127P600-14; ComponentLink1Description: Manufacturer Link; ComponentLink1URL: http://www.ti.com/; ComponentLink2Description: Datasheet; ComponentLink2URL: http://www-s.ti.com/sc/ds/sn74ahc04.pdf; ComponentLink3Description: Packaging Specification; ComponentLink3URL: http://focus.ti.com/lit/ml/mpds177/mpds177.pdf
3D model D014 (14-Pin Small Outline Integrated Circuit 1.27 mm Pitch)
signal-integrity model SN74AHC04D
footprint SO14_M (14-Pin Small Outline Integrated Circuit 1.27 mm Pitch, IPC Low Density)
pins on every part: 7 GND (power) hidden to GND, 14 VCC (power) hidden to VCC
part A pins: 1 A (in), 2 Y (out)
part B pins: 3 A (in), 4 Y (out)
part C pins: 5 A (in), 6 Y (out)
part D pins: 8 Y (out), 9 A (in)
part E pins: 10 Y (out), 11 A (in)
part F pins: 12 Y (out), 13 A (in)

## SN74LVC2G00
designator U?
NAND GATE
footprint VSSOP
pins: 1 1A, 2 1B, 3 2Y, 4 GND (power), 5 2A, 6 2B, 7 1Y, 8 VCC (power)

## SN74LVC125A
designator U?
Quadruple Bus Buffer Gate with 3- State Outputs
part A pins: 1 OE (in), 2 A (in), 3 Y (hiz)
part B pins: 4 OE (in), 5 A (in), 6 Y (hiz)
part C pins: 8 Y (hiz), 9 A (in), 10 OE (in)
part D pins: 11 Y (hiz), 12 A (in), 13 OE (in)
part E pins: 7 GND (power), 14 VCC (power)

## SN74LVC126A
designator U?
Quadruple Bus Buffer Gate with 3- State Outputs
part A pins: 1 OE (in), 2 A (in), 3 Y (hiz)
part B pins: 4 OE (in), 5 A (in), 6 Y (hiz)
part C pins: 8 Y (hiz), 9 A (in), 10 OE (in)
part D pins: 11 Y (hiz), 12 A (in), 13 OE (in)
part E pins: 7 GND (power), 14 VCC (power)

## SN75LVC541A
designator U?
octal buffer/driver
footprint PW020 (Shrink Small Outline; 20 Leads; Body Width 4.4 mm; Pitch 0.65 mm)
pins: 1 E1, 2 D1, 3 D2, 4 D3, 5 D4, 6 D5, 7 D6, 8 D7, 9 D8, 10 GND, 11 Q8, 12 Q7, 13 Q6, 14 Q5, 15 Q4, 16 Q3, 17 Q2, 18 Q1, 19 E2, 20 VCC

## TLV320AI23B
designator U?, comment Alv320AIC23B
Stereo Audio CODEC

## TLV2474
designator U?
HIGH-DRIVEOPERATIONALAMPLIFIERSWITHSHUTDOWN
footprint TSSOP14 (Shrink Small Outline; 14 Leads; Body Width 4.4 mm; Pitch 0.65 mm)
part A pins: 1 (out), 2 - (in), 3 + (in), 4, 11
part B pins: 5 + (in), 6 - (in), 7 OUT (out)
part C pins: 8 OUT (out), 9 - (in), 10 + (in)
part D pins: 12 + (in), 13 - (in), 14 OUT (out)

## TLV3402C
designator U?, comment TLV3402
COMPARATOR
footprint MSOP8
pins: 1 1OUT (out), 2 1IN- (in), 3 1IN+ (in), 4 GND (power), 5 2IN+ (in), 6 2IN- (in), 7 2OUT (out), 8 VCC (power)

## TLV3501AIDB
designator U?
4.5ns Rail-to-Rail, High-Speed Comparator in Microsize Packages
pins: 1 -IN, 2 V-, 3 +IN, 4 V+, 5 OUT, 6 ~{SHDN}

## TM1638
designator U?
LED Driver
footprint SO28_M (28-Pin Plastic Small Outline Integrated Circuit 1.27 mm Pitch, IPC Low Density)
pins: 1 K1 (in), 2 K2 (in), 3 K3 (in), 4 VDD (power), 5 SEG1/KS1 (out), 6 SEG2/KS2 (out), 7 SEG3/KS3 (out), 8 SEG4/KS4 (out), 9 SEG5/KS5 (out), 10 SEG6/KS6 (out), 11 SEG7/KS7 (out), 12 SEG8/KS8 (out), 13 SEG9 (out), 14 SEG10 (out), 15 VDD (power), 16 GRD8 (out), 17 GRD7 (out), 18 GND (power), 19 GRD6 (out), 20 GRD5 (out), 21 GRD4 (out), 22 GRD3 (out), 23 GRD2 (out), 24 GRD1 (out), 25 GND (power), 26 DIO (io), 27 CLK (in), 28 STB (in)

## TMP100
designator U?
I2C Digital Temperature Sensor From TI
pins: 1 SCL, 2 GND, 3 ADD1, 4 V+, 5 ADD0, 6 SDA

## TS3A44159
designator U?
MULTIPLEXER/DEMULTIPLEXERWITHTWOCONTROLS
pins: 1 NO2, 2 COM2, 3 NC2, 4 GND, 5 NO3, 6 COM3, 7 NC3, 8 IN3-4, 9 NO4, 10 COM4, 11 NC4, 12 VDD, 13 NO1, 14 COM1, 15 NC1, 16 IN1-2

## TSC2046
designator U?
Low Voltage Touch Screen Controller
footprint TSSOP16
pins: 1 VCC (power), 2 X+, 3 Y+, 4 X-, 5 Y-, 6 GND (power), 7 VBAT (power), 8 AUX, 9 VREF (power), 10 IOVDD (power), 11 PENIRQ, 12 DOUT, 13 BUSY, 14 DIN, 15 ~{CS}, 16 DCLK

## TTP229BSFN
designator U?
TOUCH PAD DETECTOR IC
footprint TSSOP28
pins: 1 TP3, 2 TP2, 3 NC, 4 SENADJ0, 5 TP1, 6 TP0, 7 TP15, 8 TP14, 9 SENADJ3, 10 TP13, 11 TP12, 12 SDO, 13 SCL, 14 SLPSENB, 15 TP11, 16 TP10, 17 SENADJ2, 18 TP9, 19 TP8, 20 TEST, 21 TP7, 22 TP6, 23 SENADJ1, 24 TP5, 25 TP4, 26 VDD, 27 VSS, 28 SLPSENA
2 alternate drawings of the same symbol

## TXS0104ED
designator U?
4-BITBIDIRECTIONALVOLTAGE-LEVELTRANSLATOR
footprint SO14_L (14-Pin Small Outline Integrated Circuit 1.27 mm Pitch, IPC High Density)
pins: 1 VCCA, 2 A1, 3 A2, 4 A3, 5 A4, 6 NC, 7 GND, 8 OE, 9 NC, 10 B4, 11 B3, 12 B2, 13 B1, 14 VCCB

## TXS0108E
designator U?
LEVEL TRANSLATOR
pins: 1 A1 (io), 2 VA (power), 3 A2 (io), 4 A3 (io), 5 A4 (io), 6 A5 (io), 7 A6 (io), 8 A7 (io), 9 A8 (io), 10 OE (in), 11 GND (power), 12 B8 (io), 13 B7 (io), 14 B6 (io), 15 B5 (io), 16 B4 (io), 17 B3 (io), 18 B2 (io), 19 VB (power), 20 B1 (io)

## ULN2003
designator U?
SEVEN DARLINGTON ARRAYS
footprint SOP16
pins: 1 IN1 (in), 2 IN2 (in), 3 IN3 (in), 4 IN4 (in), 5 IN5 (in), 6 IN6 (in), 7 IN7 (in), 8 GND (power), 9 COM, 10 OUT7 (oc), 11 OUT6 (oc), 12 OUT5 (oc), 13 OUT4 (oc), 14 OUT3 (oc), 15 OUT2 (oc), 16 OUT1 (oc)

## USBLC6-2
designator U?, comment USBLC6-2P6
USB ESD Protector
footprint SOT23-6L
footprint SOT-666 (A)
pins: 1 I/O1, 2 GND, 3 I/O2, 4 I/O2, 5 Vbus, 6 I/O1
2 alternate drawings of the same symbol

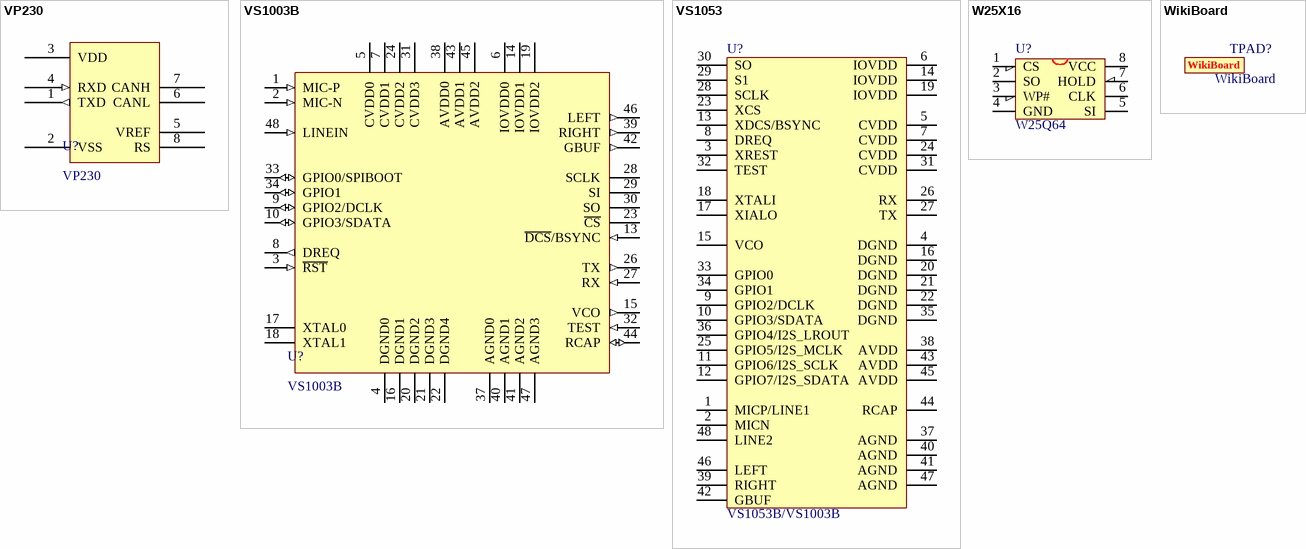
[diagram p4: symbols VP230 to WikiBoard]

## VP230
designator U?
CAN Tranciever
footprint SO8
pins: 1 TXD (out), 2 VSS (power), 3 VDD (power), 4 RXD (in), 5 VREF, 6 CANL, 7 CANH, 8 RS

## VS1003B
designator U?
MP3 DECODER
footprint LQFP48_N
pins: 1 MIC-P (in), 2 MIC-N (in), 3 ~{RST} (in), 4 DGND0 (power), 5 CVDD0 (power), 6 IOVDD0 (power), 7 CVDD1 (power), 8 DREQ (out), 9 GPIO2/DCLK (io), 10 GPIO3/SDATA (io), 13 ~{DCS}/BSYNC (in), 14 IOVDD1 (power), 15 VCO (out), 16 DGND1 (power), 17 XTAL0, 18 XTAL1, 19 IOVDD2 (power), 20 DGND2 (power), 21 DGND3 (power), 22 DGND4 (power), 23 ~{CS}, 24 CVDD2 (power), 26 TX (out), 27 RX (in), 28 SCLK, 29 SI, 30 SO, 31 CVDD3 (power), 32 TEST (in), 33 GPIO0/SPIBOOT (io), 34 GPIO1 (io), 37 AGND0, 38 AVDD0, 39 RIGHT (out), 40 AGND1, 41 AGND2, 42 GBUF (out), 43 AVDD1 (power), 44 RCAP (io), 45 AVDD2 (power), 46 LEFT (out), 47 AGND3 (power), 48 LINEIN (in)

## VS1053
designator U?, comment VS1053B/VS1003B
Audio Decoder
footprint mTQFP48 (5.8mm)
pins: 1 MICP/LINE1, 2 MICN, 3 XREST, 4 DGND, 5 CVDD, 6 IOVDD, 7 CVDD, 8 DREQ, 9 GPIO2/DCLK, 10 GPIO3/SDATA, 11 GPIO6/I2S_SCLK, 12 GPIO7/I2S_SDATA, 13 XDCS/BSYNC, 14 IOVDD, 15 VCO, 16 DGND, 17 XIALO, 18 XTALI, 19 IOVDD, 20 DGND, 21 DGND, 22 DGND, 23 XCS, 24 CVDD, 25 GPIO5/I2S_MCLK, 26 RX, 27 TX, 28 SCLK, 29 S1, 30 SO, 31 CVDD, 32 TEST, 33 GPIO0, 34 GPIO1, 35 DGND, 36 GPIO4/I2S_LROUT, 37 AGND, 38 AVDD, 39 RIGHT, 40 AGND, 41 AGND, 42 GBUF, 43 AVDD, 44 RCAP, 45 AVDD, 46 LEFT, 47 AGND, 48 LINE2

## W25X16
designator U?, comment W25Q64
W25X16;SST25VF016;MX25L1605
footprint SOIC-8 (SOIC)
pins: 1 CS, 2 SO, 3 WP#, 4 GND, 5 SI, 6 CLK, 7 HOLD, 8 VCC

## WikiBoard
designator TPAD?